# Altium footprint library PAL2.PcbLib: 132 footprints (part 6 of 9)
Each footprint in its own frame and in the unit in brackets; x right, y up, seen from the top. Pads: shape width x height; smd on the part's side, far side on the other; paste and mask are expansions set on the pad; w line width, h text height; cw(c..) or ccw(c..) is an arc to the next point about the centre after c.
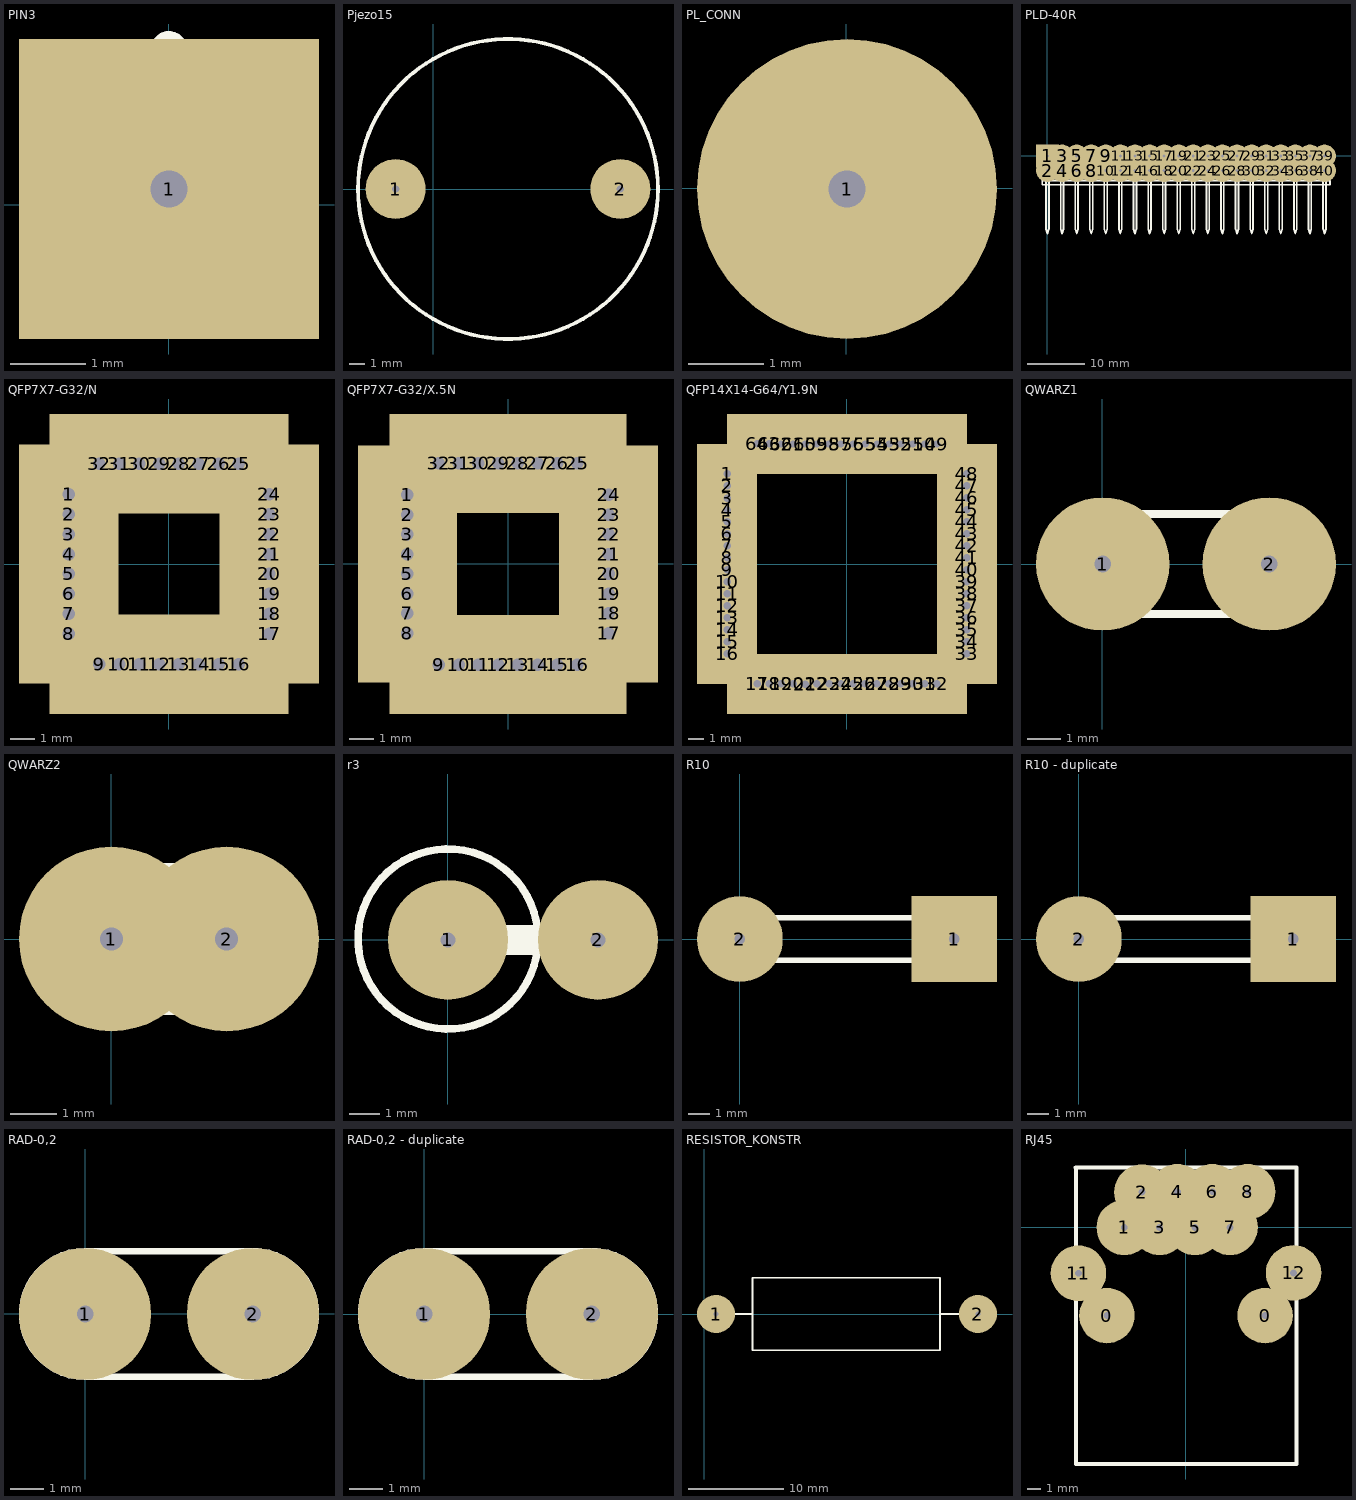
[diagram p5: the footprints below, top view; thin cyan lines are the x and y axes]

## PIN3 [mm]
pads (1):
  rect 4x4 hole 0.5: 1(0.003,0.209)
Top Overlay:
  circle w0.25: c0.003,2.063 r0.125
  lines w0.2: -1.397,-1.387 -1.397,1.413 1.403,1.413 1.403,-1.387 -1.397,-1.387

## Pjezo15 [mm]
pads (2):
  round 4 hole 0.5: 1(-2.503,0.012) 2(12.497,0.012)
Top Overlay:
  circle w0.254: c4.997,0.012 r10.012

## PL_CONN [mm]
pads (1):
  round 4 on Top hole 0.5: 1(0.008,-0.009)

## PLD-40R [mm]
pads (40):
  rect 4x4 hole 0.5: 1(0,0)
  round 4 hole 0.5: 2(0,-2.54) 3(2.54,0) 4(2.54,-2.54) 5(5.08,0) 6(5.08,-2.54) 7(7.62,0) 8(7.62,-2.54) 9(10.16,0) 10(10.16,-2.54) 11(12.7,0) 12(12.7,-2.54) 13(15.24,0) 14(15.24,-2.54) 15(17.78,0) 16(17.78,-2.54) 17(20.32,0) 18(20.32,-2.54) 19(22.86,0) 20(22.86,-2.54) 21(25.4,0) 22(25.4,-2.54) 23(27.94,0) 24(27.94,-2.54) 25(30.48,0) 26(30.48,-2.54) 27(33.02,0) 28(33.02,-2.54) 29(35.56,0) 30(35.56,-2.54) 31(38.1,0) 32(38.1,-2.54) 33(40.64,0) 34(40.64,-2.54) 35(43.18,0) 36(43.18,-2.54) 37(45.72,0) 38(45.72,-2.54) 39(48.26,0) 40(48.26,-2.54)
Top Overlay:
  lines w0.3: -0.75,-4.275 49.175,-4.275 49.2,-4.3 49.2,-5 -0.9,-5 -0.9,-4.3 -0.875,-4.275 -0.675,-4.275 ; -0.25,0 -0.25,-12.7 0,-13.5 0.25,-12.7 0.25,0 ; -0.25,0.048 cw(c0,0.025) 0.25,0.05 ; 2.29,0 2.29,-12.7 2.54,-13.5 2.79,-12.7 2.79,0 ; 2.29,0.048 cw(c2.54,0.025) 2.79,0.05 ; 4.83,0 4.83,-12.7 5.08,-13.5 5.33,-12.7 5.33,0 ; 4.83,0.048 cw(c5.08,0.025) 5.33,0.05 ; 7.37,0 7.37,-12.7 7.62,-13.5 7.87,-12.7 7.87,0 ; 7.37,0.048 cw(c7.62,0.025) 7.87,0.05 ; 9.91,0 9.91,-12.7 10.16,-13.5 10.41,-12.7 10.41,0 ; 9.91,0.048 cw(c10.16,0.025) 10.41,0.05 ; 12.45,0 12.45,-12.7 12.7,-13.5 12.95,-12.7 12.95,0 ; 12.45,0.048 cw(c12.7,0.025) 12.95,0.05 ; 14.99,0 14.99,-12.7 15.24,-13.5 15.49,-12.7 15.49,0 ; 14.99,0.048 cw(c15.24,0.025) 15.49,0.05 ; 17.53,0 17.53,-12.7 17.78,-13.5 18.03,-12.7 18.03,0 ; 17.53,0.048 cw(c17.78,0.025) 18.03,0.05 ; 20.07,0 20.07,-12.7 20.32,-13.5 20.57,-12.7 20.57,0 ; 20.07,0.048 cw(c20.32,0.025) 20.57,0.05 ; 22.61,0 22.61,-12.7 22.86,-13.5 23.11,-12.7 23.11,0 ; 22.61,0.048 cw(c22.86,0.025) 23.11,0.05 ; 25.15,0 25.15,-12.7 25.4,-13.5 25.65,-12.7 25.65,0 ; 25.15,0.048 cw(c25.4,0.025) 25.65,0.05 ; 27.69,0 27.69,-12.7 27.94,-13.5 28.19,-12.7 28.19,0 ; 27.69,0.048 cw(c27.94,0.025) 28.19,0.05 ; 30.23,0 30.23,-12.7 30.48,-13.5 30.73,-12.7 30.73,0 ; 30.23,0.048 cw(c30.48,0.025) 30.73,0.05 ; 32.77,0 32.77,-12.7 33.02,-13.5 33.27,-12.7 33.27,0 ; 32.77,0.048 cw(c33.02,0.025) 33.27,0.05 ; 35.31,0 35.31,-12.7 35.56,-13.5 35.81,-12.7 35.81,0 ; 35.31,0.048 cw(c35.56,0.025) 35.81,0.05 ; 37.85,0 37.85,-12.7 38.1,-13.5 38.35,-12.7 38.35,0 ; 37.85,0.048 cw(c38.1,0.025) 38.35,0.05 ; 40.39,0 40.39,-12.7 40.64,-13.5 40.89,-12.7 40.89,0 ; 40.39,0.048 cw(c40.64,0.025) 40.89,0.05 ; 42.93,0 42.93,-12.7 43.18,-13.5 43.43,-12.7 43.43,0 ; 42.93,0.048 cw(c43.18,0.025) 43.43,0.05 ; 45.47,0 45.47,-12.7 45.72,-13.5 45.97,-12.7 45.97,0 ; 45.47,0.048 cw(c45.72,0.025) 45.97,0.05 ; 48.01,-12.7 48.01,0 48.01,-12.7 ; 48.01,-12.7 48.26,-13.5 ; 48.01,-12.7 48.26,-13.5 ; 48.26,-13.5 48.51,-12.7 ; 48.26,-13.5 48.51,-12.7 ; 48.51,-12.7 48.51,0 48.51,-12.7 ; 48.01,0.048 cw(c48.26,0.025) 48.51,0.05 ccw(c48.26,0.025) 48.01,0.048

## QFP7X7-G32/N [mm]
pads (32):
  rect 4x4 on Top hole 0.5: 1(-4.025,2.804) 2(-4.025,2.004) 3(-4.025,1.204) 4(-4.025,0.404) 5(-4.025,-0.396) 6(-4.025,-1.196) 7(-4.025,-1.996) 8(-4.025,-2.796) 9(-2.8,-4.021) 10(-2,-4.021) 11(-1.2,-4.021) 12(-0.4,-4.021) 13(0.4,-4.021) 14(1.2,-4.021) 15(2,-4.021) 16(2.8,-4.021) 17(4.025,-2.796) 18(4.025,-1.996) 19(4.025,-1.196) 20(4.025,-0.396) 21(4.025,0.404) 22(4.025,1.204) 23(4.025,2.004) 24(4.025,2.804) 25(2.8,4.029) 26(2,4.029) 27(1.2,4.029) 28(0.4,4.029) 29(-0.4,4.029) 30(-1.2,4.029) 31(-2,4.029) 32(-2.8,4.029)
Top Overlay:
  circle w0.25: c-4,3.604 r0.125
  lines w0.2: -2.85,-2.846 2.85,-2.846 2.85,2.854 -2.85,2.854 -2.85,-2.846

## QFP7X7-G32/X.5N [mm]
pads (32):
  rect 4x4 on Top hole 0.5: 1(-4.082,2.794) 2(-4.082,1.994) 3(-4.082,1.194) 4(-4.082,0.394) 5(-4.082,-0.406) 6(-4.082,-1.206) 7(-4.082,-2.006) 8(-4.082,-2.806) 9(-2.807,-4.081) 10(-2.007,-4.081) 11(-1.207,-4.081) 12(-0.407,-4.081) 13(0.393,-4.081) 14(1.193,-4.081) 15(1.993,-4.081) 16(2.793,-4.081) 17(4.068,-2.806) 18(4.068,-2.006) 19(4.068,-1.206) 20(4.068,-0.406) 21(4.068,0.394) 22(4.068,1.194) 23(4.068,1.994) 24(4.068,2.794) 25(2.793,4.069) 26(1.993,4.069) 27(1.193,4.069) 28(0.393,4.069) 29(-0.407,4.069) 30(-1.207,4.069) 31(-2.007,4.069) 32(-2.807,4.069)
Top Overlay:
  circle w0.25: c-4.007,3.594 r0.125
  lines w0.2: -2.857,-2.856 2.843,-2.856 2.843,2.844 -2.857,2.844 -2.857,-2.856

## QFP14X14-G64/Y1.9N [mm]
pads (64):
  rect 4x4 on Top hole 0.5: 1(-7.989,6.01) 2(-7.989,5.21) 3(-7.989,4.41) 4(-7.989,3.61) 5(-7.989,2.81) 6(-7.989,2.01) 7(-7.989,1.21) 8(-7.989,0.41) 9(-7.989,-0.39) 10(-7.989,-1.19) 11(-7.989,-1.99) 12(-7.989,-2.79) 13(-7.989,-3.59) 14(-7.989,-4.39) 15(-7.989,-5.19) 16(-7.989,-5.99) 17(-5.989,-7.99) 18(-5.189,-7.99) 19(-4.389,-7.99) 20(-3.589,-7.99) 21(-2.789,-7.99) 22(-1.989,-7.99) 23(-1.189,-7.99) 24(-0.389,-7.99) 25(0.411,-7.99) 26(1.211,-7.99) 27(2.011,-7.99) 28(2.811,-7.99) 29(3.611,-7.99) 30(4.411,-7.99) 31(5.211,-7.99) 32(6.011,-7.99) 33(8.011,-5.99) 34(8.011,-5.19) 35(8.011,-4.39) 36(8.011,-3.59) 37(8.011,-2.79) 38(8.011,-1.99) 39(8.011,-1.19) 40(8.011,-0.39) 41(8.011,0.41) 42(8.011,1.21) 43(8.011,2.01) 44(8.011,2.81) 45(8.011,3.61) 46(8.011,4.41) 47(8.011,5.21) 48(8.011,6.01) 49(6.011,8.01) 50(5.211,8.01) 51(4.411,8.01) 52(3.611,8.01) 53(2.811,8.01) 54(2.011,8.01) 55(1.211,8.01) 56(0.411,8.01) 57(-0.389,8.01) 58(-1.189,8.01) 59(-1.989,8.01) 60(-2.789,8.01) 61(-3.589,8.01) 62(-4.389,8.01) 63(-5.189,8.01) 64(-5.989,8.01)
Top Overlay:
  circle w0.25: c-7.989,6.81 r0.125
  lines w0.2: -6.639,-6.64 6.661,-6.64 6.661,6.66 -6.639,6.66 -6.639,-6.64

## QWARZ1 [mm]
pads (2):
  round 4 hole 0.5: 1(0.008,0) 2(5.008,0)
Top Overlay:
  lines w0.254: 4.908,1.497 cw(c5.008,0) 5.008,-1.5 0.008,-1.5 cw(c0.008,0) 0.008,1.5 5.008,1.5

## QWARZ2 [mm]
pads (2):
  round 4 hole 0.5: 1(0.001,0.005) 2(2.501,0.005)
Top Overlay:
  lines w0.3: -0.039,-1.495 cw(c0.001,0.005) -0.039,1.505 2.541,1.505 cw(c2.501,0.005) 2.541,-1.495 -0.039,-1.495

## r3 [mm]
pads (2):
  round 4 hole 0.5: 1(0,0) 2(5,0)
Top Overlay:
  circle w0.254: c0,0.025 r3
  lines w1: 0,0 5,0

## R10 [mm]
pads (2):
  rect 4x4 hole 0.5: 1(9.998,0.003)
  round 4 hole 0.5: 2(-0.002,0.003)
Top Overlay:
  lines w0.254: -0.002,-0.997 -0.002,0.003 -0.002,0.903 0.098,1.003 9.998,1.003 9.998,-0.997 -0.002,-0.997

## R10 - duplicate [mm]
pads (2):
  rect 4x4 hole 0.5: 1(9.998,0.003)
  round 4 hole 0.5: 2(-0.002,0.003)
Top Overlay:
  lines w0.254: -0.002,-0.997 -0.002,0.003 -0.002,0.903 0.098,1.003 9.998,1.003 9.998,-0.997 -0.002,-0.997

## RAD-0,2 [mm]
pads (2):
  round 4 hole 0.5: 1(-0.006,-0.008) 2(5.074,-0.008)
Top Overlay:
  lines w0.2: 5.074,1.897 cw(c5.074,-0.008) 5.074,-1.913 -0.006,-1.913 cw(c-0.006,-0.008) -0.006,1.897 5.201,1.897

## RAD-0,2 - duplicate [mm]
pads (2):
  round 4 hole 0.5: 1(0.002,0) 2(5.082,0)
Top Overlay:
  lines w0.2: 5.082,1.905 cw(c5.082,0) 5.082,-1.905 0.002,-1.905 cw(c0.002,0) 0.002,1.905 5.209,1.905

## RESISTOR_KONSTR [mm]
pads (2):
  round 4 hole 0.5: 1(1.253,0.005) 2(28.753,0.005)
Top Overlay:
  lines w0.2: 1.253,0.005 5.083,0.005 ; 28.753,0.005 24.768,0.005 ; 5.083,0.005 5.083,3.815 24.768,3.815 24.768,0.005 ; 5.083,0.005 5.083,-3.805 24.768,-3.805 24.768,0.005

## RJ45 [mm]
pads (12):
  round 4 hole 0.5: 0(-5.693,-6.355) 0(5.707,-6.355) 1(-4.443,-0.005) 2(-3.168,2.545) 3(-1.893,-0.005) 4(-0.618,2.57) 5(0.657,-0.005) 6(1.907,2.57) 7(3.182,-0.005) 8(4.457,2.57) 11(-7.743,-3.305) 12(7.757,-3.28)
Top Overlay:
  lines w0.3: -7.943,4.32 7.982,4.32 7.982,-17.055 -7.918,-17.055 -7.918,4.295 -7.943,4.32